# Altium footprint library CAPC3216X140N.PcbLib: 1 footprints
Each footprint in its own frame and in the unit in brackets; x right, y up, seen from the top. Pads: shape width x height; smd on the part's side, far side on the other; paste and mask are expansions set on the pad; w line width, h text height; cw(c..) or ccw(c..) is an arc to the next point about the centre after c.
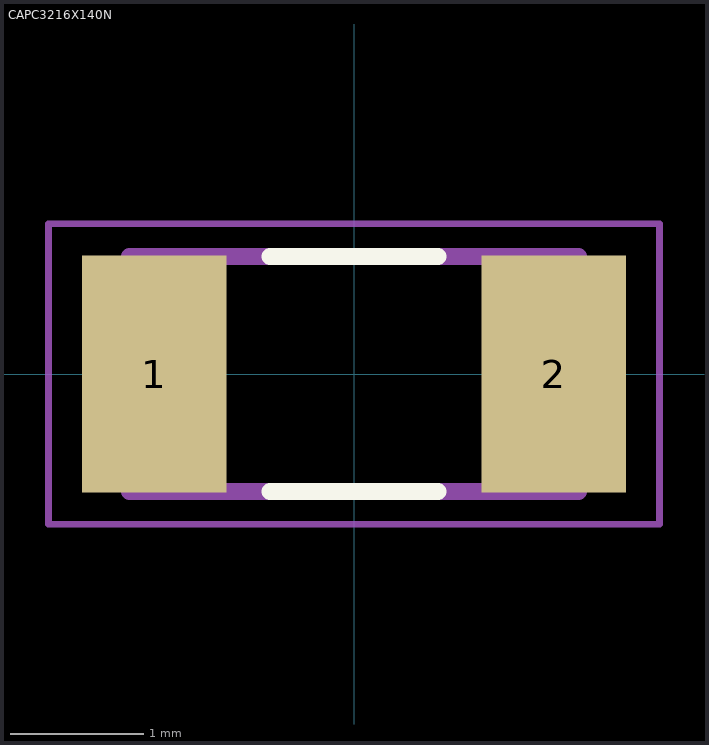
[diagram p0: the footprint, top view; thin cyan lines are the x and y axes]

## CAPC3216X140N [mm]
pads (2):
  rect 1.08x1.77 smd: 1(-1.495,0) 2(1.495,0)
Top Overlay:
  lines w0.127: -0.63,-0.88 0.63,-0.88 ; -0.63,0.88 0.63,0.88
Mechanical 13:
  lines w0.127: -1.68,-0.88 1.68,-0.88 1.68,0.88 -1.68,0.88 -1.68,-0.88
Mechanical 15:
  lines w0.05: -2.285,-1.125 2.285,-1.125 2.285,1.125 -2.285,1.125 -2.285,-1.125
3D body "CL31B106MOHNNNE.STEP": height 1.59, standoff -0.01, extent -1.651,-0.9 1.549,0.9